# Altium footprint library TE_282834-4.PcbLib: 1 footprints
Each footprint in its own frame and in the unit in brackets; x right, y up, seen from the top. Pads: shape width x height; smd on the part's side, far side on the other; paste and mask are expansions set on the pad; w line width, h text height; cw(c..) or ccw(c..) is an arc to the next point about the centre after c.
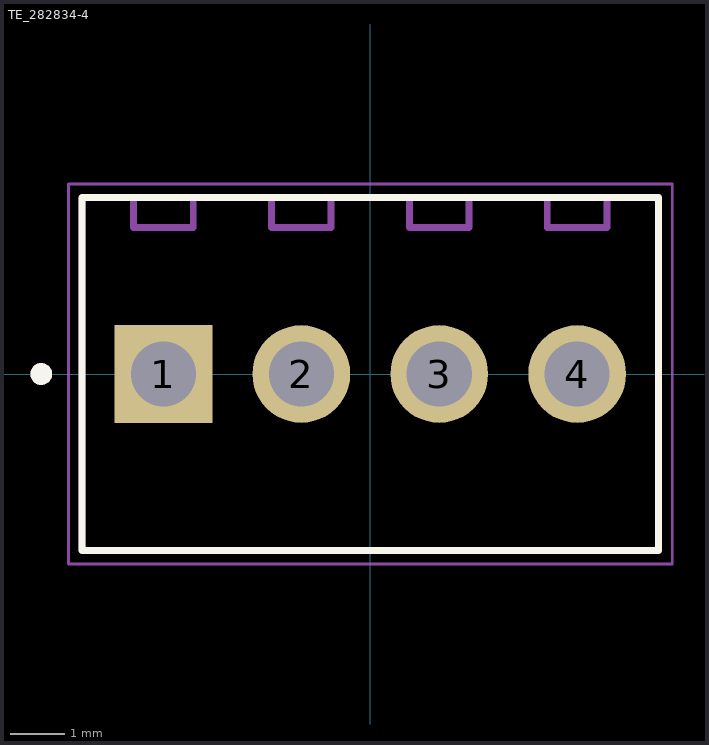
[diagram p0: the footprint, top view; thin cyan lines are the x and y axes]

## TE_282834-4 [mm]
height 10
pads (4):
  rect 1.8x1.8 / inner round 1.8 / far side rect 1.8x1.8 hole 1.2: 1(-3.81,0)
  round 1.8 hole 1.2: 2(-1.27,0) 3(1.27,0) 4(3.81,0)
Top Overlay:
  circle w0.2: c-6.06,0 r0.1
  lines w0.127: -5.31,-3.25 5.31,-3.25 5.31,3.25 -5.31,3.25 -5.31,-3.25
Mechanical 13:
  circle w0.2: c-6.06,0 r0.1
  lines w0.127: -4.36,3.2 -4.36,2.7 -3.26,2.7 -3.26,3.2 ; -1.82,3.2 -1.82,2.7 -0.72,2.7 -0.72,3.2 ; 0.72,3.2 0.72,2.7 1.82,2.7 1.82,3.2 ; 3.26,3.2 3.26,2.7 4.36,2.7 4.36,3.2 ; -5.31,-3.25 5.31,-3.25 5.31,3.25 -5.31,3.25 -5.31,-3.25
Mechanical 15:
  lines w0.05: -5.56,-3.5 -5.56,3.5 5.56,3.5 5.56,-3.5 -5.56,-3.5
3D body "step_temp.STEP": height 10, standoff -3.6, extent -5.31,-3.25 5.31,3.25